# EAGLE library part 649020227222 (library Wire-to-Board (rev18a))
WR-MPC4-4.20mm Male Dual Row Angled Header with Mounting Pegs,20 pins=>Code : Con_WTB_MPC4_2_PCB_649020227222 <http://katalog.we-online.de/media/thumbs2/eican/thb_Con_WTB_MPC4_2_PCB_6490xx227222_pf2.jpg> Details see: http://katalog.we-online.de/en/em/MPC4_4_20_MALE_DUAL_ROW_ANGLED_HEADER_W_MOUNTING_PEGS_6490XX2272222 Created 2014-06-06, Karrer Zheng 2014 (C) Würth Elektronik
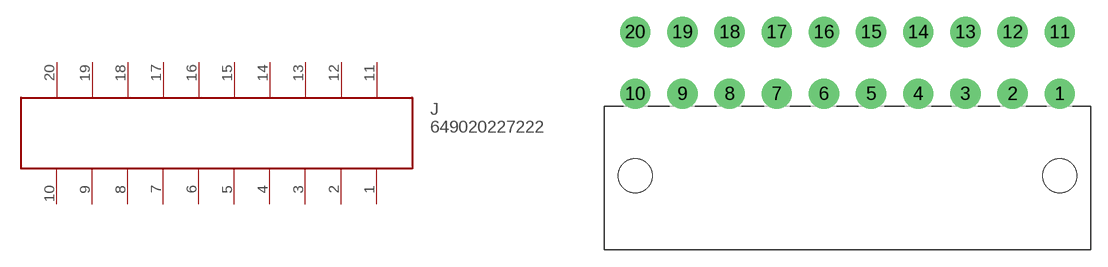
[diagram p313: symbol with the pads of 649020227222; footprint 649020227222]

Designator prefix J

## 649020227222  [649020227222]
1  1
2  2
3  3
4  4
5  5
6  6
7  7
8  8
9  9
10  10
11  11
12  12
13  13
14  14
15  15
16  16
17  17
18  18
19  19
20  20

## Footprint 649020227222 (pad centres in mm)
WR-MPC4-4.20mm Male Dual Row Angled Header with Mounting Pegs,20 pins
drill 1.8: 1 18.9,7.3; 2 14.7,7.3; 3 10.5,7.3; 4 6.3,7.3; 5 2.1,7.3; 6 -2.1,7.3; 7 -6.3,7.3; 8 -10.5,7.3; 9 -14.7,7.3; 10 -18.9,7.3; 11 18.9,12.8; 12 14.7,12.8; 13 10.5,12.8; 14 6.3,12.8; 15 2.1,12.8; 16 -2.1,12.8; 17 -6.3,12.8; 18 -10.5,12.8; 19 -14.7,12.8; 20 -18.9,12.8
hole 3 at -18.9,0
hole 3 at 18.9,0